# Altium footprint library Callisto Control Board.PcbLib: 9 footprints
Each footprint in its own frame and in the unit in brackets; x right, y up, seen from the top. Pads: shape width x height; smd on the part's side, far side on the other; paste and mask are expansions set on the pad; w line width, h text height; cw(c..) or ccw(c..) is an arc to the next point about the centre after c.
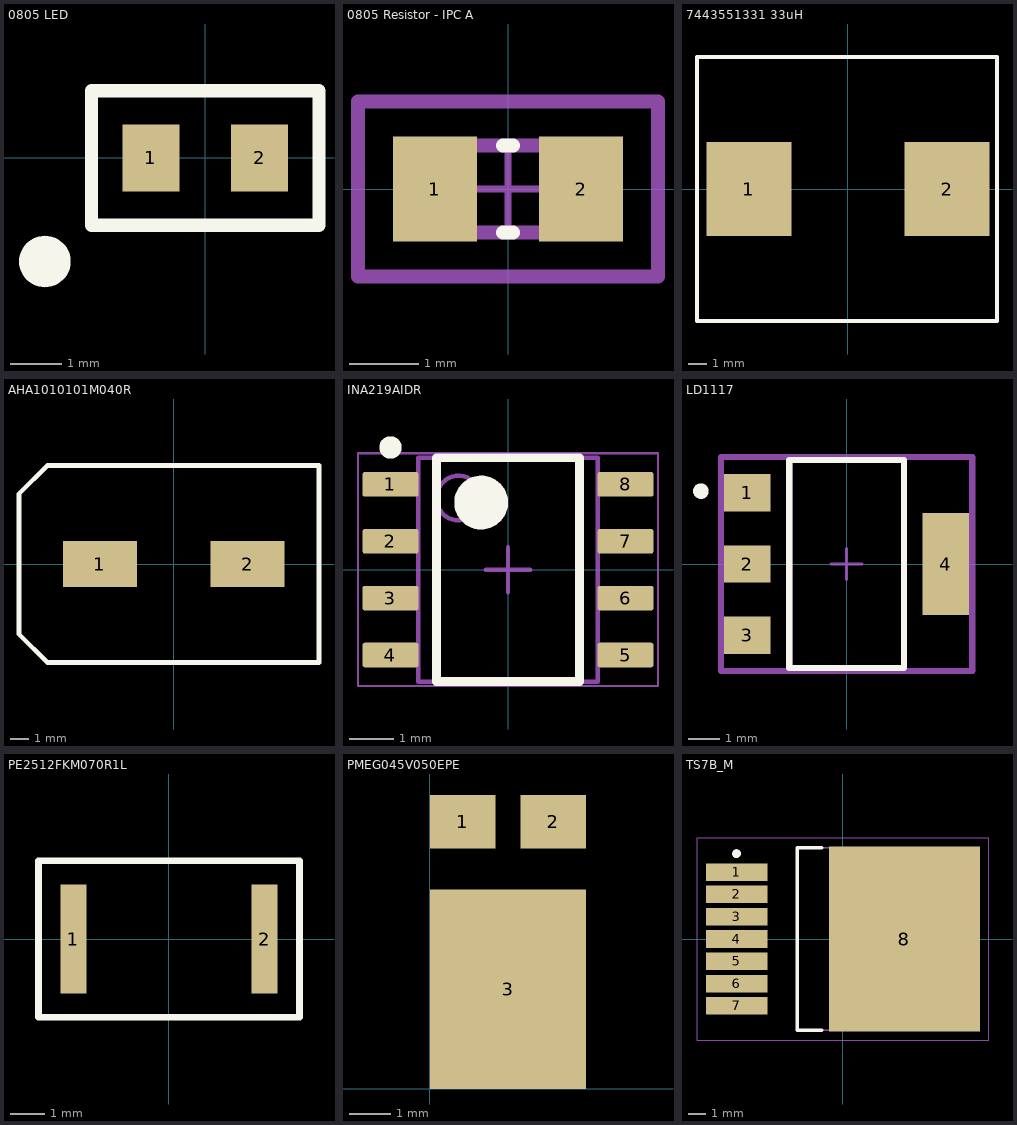
[diagram p0: the footprints below, top view; thin cyan lines are the x and y axes]

## 0805 LED [mm] "Wurth Electronics  / 150080VS75000"
pads (3):
  rect 1.1x1.3 smd: 1(-1.05,0) 2(1.05,0)
  round 1 on Top Overlay: ""(-3.1,-2)
Top Overlay:
  lines w0.254: -2.2,-1.3 2.2,-1.3 2.2,1.3 -2.2,1.3 -2.2,-1.3

## 0805 Resistor - IPC A [mil]
pads (2):
  rect 47.5x59.38 smd paste+0 mask+0: 1(-41.37,0) 2(41.37,0)
Top Overlay:
  lines w7.87: -2.86,-24.61 2.86,-24.61 ; -2.86,24.61 2.86,24.61
Top 3D Body:
  lines w7.87: -39.37,-24.61 39.37,-24.61 39.37,24.61 -39.37,24.61 -39.37,-24.61
Top Courtyard:
  lines w7.87: -84.81,-49.37 84.81,-49.37 84.81,49.37 -84.81,49.37 -84.81,-49.37
Top Assembly:
  lines w7.87: -84.81,-49.37 84.81,-49.37 84.81,49.37 -84.81,49.37 -84.81,-49.37
  text ".Designator" at 0,7.4 h39.37
Top Component Center:
  lines w3.94: -19.68,0 19.68,0 ; 0,-19.68 0,19.68
3D body "Res_Vishay_CRCW0805100KFKEA_eec.STEP": height 10, standoff 0, extent -84.81,-49.37 84.81,49.37

## 7443551331 33uH [mm] "Wurth Electronics 7443551331 33uH"
pads (2):
  rect 4.5x5 smd: 1(-5.25,0) 2(5.25,0)
Top Overlay:
  lines w0.2: -8,-7 -3.375,-7 3.475,-7 7.9,-7 7.9,7 -8,7 -8,0.625 -8,-7

## AHA1010101M040R [mm]
pads (2):
  rect 4x2.5 smd: 1(-4,0) 2(4,0)
Top Overlay:
  lines w0.254: -8.382,-3.81 -8.382,3.302 -8.382,3.81 -6.858,5.334 -6.35,5.334 7.874,5.334 7.874,-5.334 -6.858,-5.334 -8.382,-3.81

## INA219AIDR [mm] "SOIC, 8-Leads, Body 5x4mm, Pitch 1.27mm, IPC High Density"
height 1.75
pads (8):
  rrect18% 1.25x0.55 smd: 1(-2.625,1.905) 2(-2.625,0.635) 3(-2.625,-0.635) 4(-2.625,-1.905) 5(2.625,-1.905) 6(2.625,-0.635) 7(2.625,0.635) 8(2.625,1.905)
Top Overlay:
  circle w0.25: c-2.625,2.73 r0.125
  circle w0.6: c-0.6,1.5 r0.3
  lines w0.2: -1.6,-2.5 -1.6,2.5 1.6,2.5 1.6,-2.5 -1.6,-2.5
Mechanical 1:
  text ".Designator" at -1.397,-0.254 h0.6
Mechanical 13:
  circle w0.1: c-1.1,1.6 r0.5
  lines w0.1: -2,-2.5 -2,2.5 2,2.5 2,-2.5 -2,-2.5
Mechanical 15:
  lines w0.05: -3.35,-2.6 -3.35,2.6 3.35,2.6 3.35,-2.6 -3.35,-2.6
  lines w0.1: -0.5,0 0.5,0 ; 0,-0.5 0,0.5
3D body "SOIC-8akaD0008AakaM08A.stp": height 1.63, standoff 0, extent -3,-2.45 3,2.45

## LD1117 [mm]
pads (4):
  rect 1.5x1.2 smd paste+0 mask+0: 1(-3.2,2.3) 2(-3.2,0) 3(-3.2,-2.3)
  rect 1.5x3.3 smd paste+0 mask+0: 4(3.2,0)
Top Overlay:
  circle w0.25: c-4.7,2.35 r0.125
  lines w0.2: -1.85,-3.35 -1.85,3.35 1.85,3.35 1.85,-3.35 -1.85,-3.35
Top 3D Body:
  lines w0.2: -1.85,-3.35 -1.85,3.35 1.85,3.35 1.85,-3.35 -1.85,-3.35
Top Courtyard:
  lines w0.2: -4.05,-3.45 -4.05,3.45 4.05,3.45 4.05,-3.45 -4.05,-3.45
Top Assembly:
  lines w0.2: -4.05,-3.45 -4.05,3.45 4.05,3.45 4.05,-3.45 -4.05,-3.45
  text ".Designator" at 0,0.188 h1
Top Component Center:
  lines w0.1: -0.5,0 0.5,0 ; 0,-0.5 0,0.5
3D body "IC_STMicroelectronics_LDL1117S50R_eec.STEP": height 0.25, standoff 0, extent -4.05,-3.45 4.05,3.45

## PE2512FKM070R1L [mm]
pads (2):
  rect 0.76x3.18 smd: 1(-2.795,0) 2(2.795,0)
Top Overlay:
  lines w0.2: -3.81,-2.286 3.81,-2.286 3.81,2.286 -3.81,2.286 -3.81,0 -3.81,-2.286

## PMEG045V050EPE [mm]
pads (3):
  rect 1.6x1.3 smd: 1(0.8,6.5) 2(3,6.5)
  rect 3.8x4.85 smd: 3(1.9,2.425)

## TS7B_M [mm] "D2-PAK, 8-Leads, Body 8.6x10.2mm, Pitch 1.27mm, Lead Span 14.1mm, IPC Low Density"
height 4.64
pads (8):
  rect 3.5x1 smd: 1(-6.05,3.81) 2(-6.05,2.54) 3(-6.05,1.27) 4(-6.05,0) 5(-6.05,-1.27) 6(-6.05,-2.54) 7(-6.05,-3.81)
  rect 8.6x10.55 smd: 8(3.5,0)
Top Overlay:
  circle w0.25: c-6.05,4.86 r0.125
  lines w0.2: -1.2,-5.2 -2.6,-5.2 -2.6,5.2 -1.2,5.2
Mechanical 13:
  lines w0.1: -2.6,-5.2 -2.6,5.2 6.29,5.2 6.29,-5.2 -2.6,-5.2
Mechanical 15:
  lines w0.05: -8.3,-5.775 -8.3,5.775 8.3,5.775 8.3,-5.775 -8.3,-5.775
  lines w0.1: -0.5,0 0.5,0 ; 0,-0.5 0,0.5
3D body: height 4.64, standoff 0, extent -2.6,-5.2 6.29,5.2